# EAGLE library part LED_RGBW (library lolomolo)
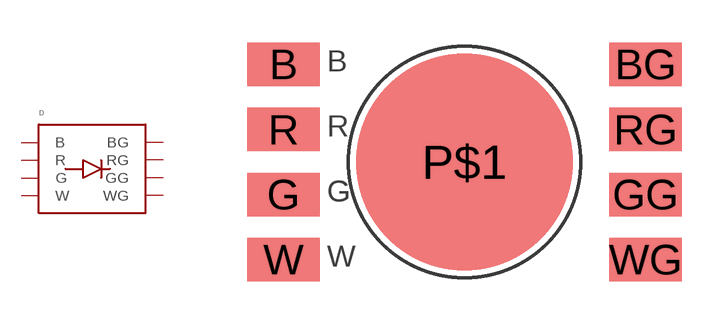
[diagram p13: symbol with the pads of LED_RGB; footprint LED_RGB]

Designator prefix D

## LED_RGBW  [LED_RGB]
B  B
BG  BG
G  G
GG  GG
P$1  R
R  R
RG  RG
W  W
WG  WG

## Footprint LED_RGB (pad centres in mm)
smd 2.54 x 1.524: B 0,6.858; BG 12.7,6.858; G 0,2.286; GG 12.7,2.286; R 0,4.572; RG 12.7,4.572; W 0,0; WG 12.7,0
smd 7.62 x 7.62: P$1 6.35,3.429